# Altium schematic symbol library 1977477-2.SchLib: 1 symbol
Pins are listed as number, name and electrical type; pins without a type are passive.

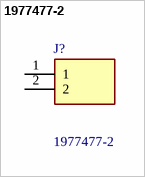
[diagram p0: symbol 1977477-2]

## 1977477-2
designator J?
Module Dual Barrier, .325 CL, 2 Pos.; Manufacturer_Name: TE Connectivity; Geometry.Height: 15.1mm; Mouser2 Part Number: *; Mouser2 Price/Stock: *; Manufacturer_Part_Number: 1977477-2; Datasheet Link: https://www.te.com/commerce/DocumentDelivery/DDEController?Action=srchrtrv&DocNm=6-1773454-9_MODUAL_DUAL_BARRIER&DocType=Data+Sheet&DocLang=English&PartCntxt=1977477-2&DocFormat=pdf
footprint 19774772
pins: 1, 2